# EAGLE library part ADAFRUIT_GPS (library Adafruit_Arduino)
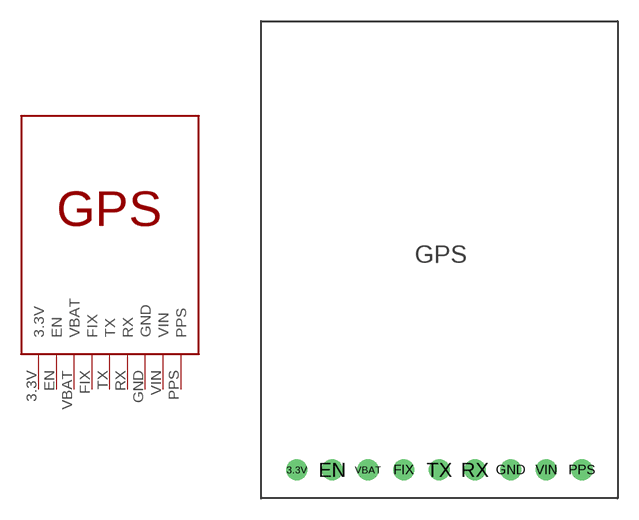
[diagram p1: symbol with the pads of ADAFRUIT_GPS; footprint ADAFRUIT_GPS]

Designator prefix -

## ADAFRUIT_GPS  [ADAFRUIT_GPS]
3.3V  3.3V
EN  EN
FIX  FIX
GND  GND
PPS  PPS
RX  RX
TX  TX
VBAT  VBAT
VIN  VIN

## Footprint ADAFRUIT_GPS (pad centres in mm)
drill 1: 3.3V -10.16,-14.986; EN -7.62,-14.986; FIX -2.54,-14.986; GND 5.08,-14.986; PPS 10.16,-14.986; RX 2.54,-14.986; TX 0,-14.986; VBAT -5.08,-14.986; VIN 7.62,-14.986